# Altium schematic symbol library MH3.2.SchLib: 1 symbol
Pins are listed as number, name and electrical type; pins without a type are passive.

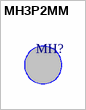
[diagram p0: symbol MH3P2MM]

## MH3P2MM
designator MH?, comment Mounting Hole Non-Plated 3.2mm  (value not drawn)
Mounting Hole Non-Plated 3.2mm drill hole
footprint MH3.2mm (Mounting Hole Non-Plated, 3.2mm hole)